# EAGLE library part NRF51822 (library nrf51822)
Multi-protocol Blutooth 4.0 low energy /2. GHz RF SoC
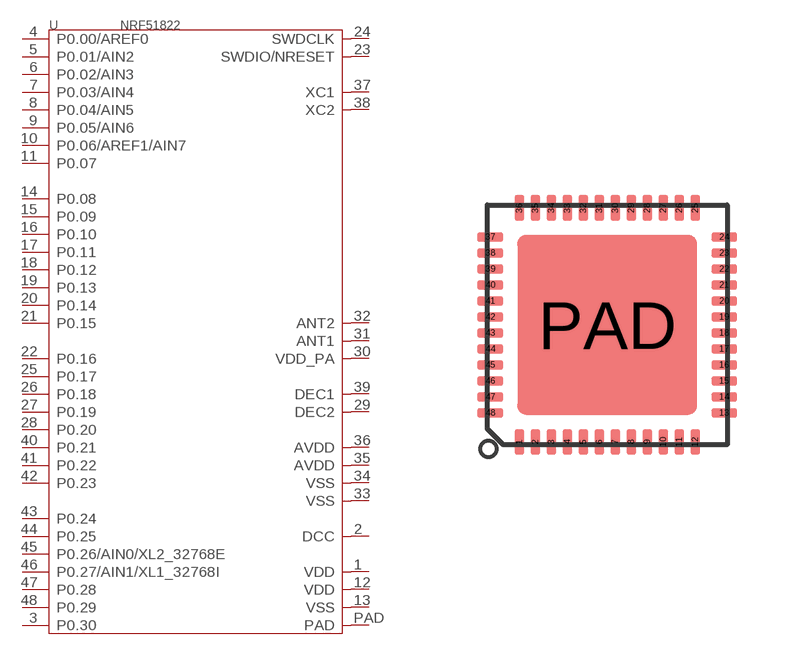
[diagram p0: symbol with the pads of QFN48-6X6MM; footprint QFN48-6X6MM]

Designator prefix U

## NRF51822  [QFN48-6X6MM]
1  VDD
2  DCC
3  P0.30
4  P0.00/AREF0
5  P0.01/AIN2
6  P0.02/AIN3
7  P0.03/AIN4
8  P0.04/AIN5
9  P0.05/AIN6
10  P0.06/AREF1/AIN7
11  P0.07
12  VDD
13  VSS
14  P0.08
15  P0.09
16  P0.10
17  P0.11
18  P0.12
19  P0.13
20  P0.14
21  P0.15
22  P0.16
23  SWDIO/NRESET
24  SWDCLK
25  P0.17
26  P0.18
27  P0.19
28  P0.20
29  DEC2
30  VDD_PA
31  ANT1
32  ANT2
33  VSS
34  VSS
35  AVDD
36  AVDD
37  XC1
38  XC2
39  DEC1
40  P0.21
41  P0.22
42  P0.23
43  P0.24
44  P0.25
45  P0.26/AIN0/XL2_32768E
46  P0.27/AIN1/XL1_32768I
47  P0.28
48  P0.29
PAD  PAD

## Footprint QFN48-6X6MM (pad centres in mm)
smd 0.23 x 0.65: 1 -2.2,-2.925; 2 -1.8,-2.925; 3 -1.4,-2.925; 4 -1,-2.925; 5 -0.6,-2.925; 6 -0.2,-2.925; 7 0.2,-2.925; 8 0.6,-2.925; 9 1,-2.925; 10 1.4,-2.925; 11 1.8,-2.925; 12 2.2,-2.925; 25 2.2,2.925; 26 1.8,2.925; 27 1.4,2.925; 28 1,2.925; 29 0.6,2.925; 30 0.2,2.925; 31 -0.2,2.925; 32 -0.6,2.925; 33 -1,2.925; 34 -1.4,2.925; 35 -1.8,2.925; 36 -2.2,2.925
smd 0.65 x 0.23: 13 2.925,-2.2; 14 2.925,-1.8; 15 2.925,-1.4; 16 2.925,-1; 17 2.925,-0.6; 18 2.925,-0.2; 19 2.925,0.2; 20 2.925,0.6; 21 2.925,1; 22 2.925,1.4; 23 2.925,1.8; 24 2.925,2.2; 37 -2.925,2.2; 38 -2.925,1.8; 39 -2.925,1.4; 40 -2.925,1; 41 -2.925,0.6; 42 -2.925,0.2; 43 -2.925,-0.2; 44 -2.925,-0.6; 45 -2.925,-1; 46 -2.925,-1.4; 47 -2.925,-1.8; 48 -2.925,-2.2
smd 4.5 x 4.5: PAD 0,0